# Altium schematic symbol library Arduino_4_Layer.SchLib: 23 symbols
Pins are listed as number, name and electrical type; pins without a type are passive.

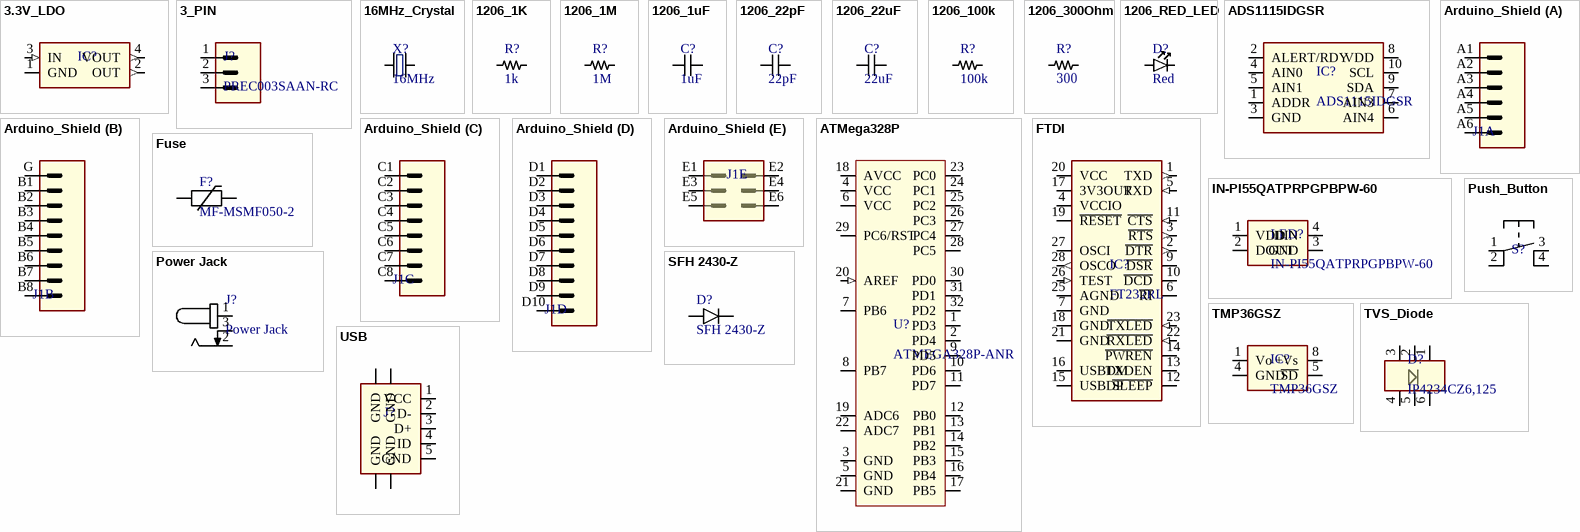
[diagram p0: symbols 3.3V_LDO to USB]

## 3.3V_LDO
designator IC?, comment AZ1117CH-3.3TRG1  (value not drawn)
Linear Voltage Regulator IC Positive Fixed 1 Output 1A SOT-223; Value: IC REG LINEAR 3.3V 800MA SOT223; Digikey Link: https://www.digikey.com/product-detail/en/AZ1117CH-3.3TRG1/AZ1117CH-3.3TRG1DICT-ND/4505206/?itemSeq=304982370; Digikey Part: AZ1117CH-3.3TRG1DICT-ND
footprint SOT223 (SOT223, 4-Leads, Body 6.50x7.00mm (avg), Pitch 2.30mm, IPC Medium Density)
pins: 1 GND, 2 OUT (out), 3 IN (in), 4 VOUT (out)

## 3_PIN
designator J?, comment PREC003SAAN-RC
Connector Header Through Hole 3 position 0.100" (2.54mm); Value: CONN HEADER VERT 3POS 2.54MM; Digikey Link: https://www.digikey.com/product-detail/en/PREC003SAAN-RC/S1012EC-03-ND/2774851/?itemSeq=304982371; Digikey Part: S1012EC-03-ND
footprint 3_PIN
pins: 1, 2, 3

## 16MHz_Crystal
designator X?, comment 16MHz
16MHz ±30ppm Crystal 18pF 40 Ohms HC-49/US; Value: CRYSTAL 16.0000MHZ 18PF SMD; Digikey Link: https://www.digikey.com/product-detail/en/ABLS-16.000MHZ-B4-T/535-10226-1-ND/2184261/?itemSeq=304982364; Digikey Part: 535-10226-1-ND
footprint Crystal
pins: 1, 2

## 1206_1K
designator R?, comment 1k
1 kOhms ±1% 0.5W, 1/2W Chip Resistor 1206 (3216 Metric) Anti-Sulfur, Moisture Resistant Thin Film; Value: RES 1K OHM 1% 1/2W 1206; Digikey Link: https://www.digikey.com/product-detail/en/RNCP1206FTD1K00/RNCP1206FTD1K00CT-ND/2240675/?itemSeq=304982373; Digikey Part: RNCP1206FTD1K00CT-ND
footprint RES1206 (Chip Resistor, 2-Leads, Body 3.10x1.60mm, IPC Medium Density)
pins: 1, 2

## 1206_1M
designator R?, comment 1M
1 MOhms ±5% 0.25W, 1/4W Chip Resistor 1206 (3216 Metric) Automotive AEC-Q200 Thick Film; Value: RES 1M OHM 5% 1/4W 1206; Digikey Link: https://www.digikey.com/product-detail/en/RMCF1206JT1M00/RMCF1206JT1M00CT-ND/1942830/?itemSeq=304982358; Digikey Part: Number RMCF1206JT1M00CT-ND
footprint RES1206 (Chip Resistor, 2-Leads, Body 3.10x1.60mm, IPC Medium Density)
pins: 1, 2

## 1206_1uF
designator C?, comment 1uF
1µF ±20% 16V Ceramic Capacitor X7R 1206 (3216 Metric); Value: CAP CER 1UF 16V X7R 1206; Digikey Link: https://www.digikey.com/product-detail/en/C1206C105M4RACTU/399-8150-1-ND/3471873/?itemSeq=304982366; Digikey Part: 399-8150-1-ND
footprint CAP1206 (Chip Capacitor, 2-Leads, Body 3.20x1.50mm, IPC Medium Density)
pins: 1, 2

## 1206_22pF
designator C?, comment 22pF
22pF ±5% 16V Ceramic Capacitor C0G, NP0 1206 (3216 Metric); Value: CAP CER 22PF 16V C0G/NP0 1206; Digikey Link: https://www.digikey.com/product-detail/en/885012008011/732-7867-1-ND/5454494/?itemSeq=304982362; Digikey Part: 732-7867-1-ND
footprint CAP1206 (Chip Capacitor, 2-Leads, Body 3.20x1.50mm, IPC Medium Density)
pins: 1, 2

## 1206_22uF
designator C?, comment 22uF
22µF ±20% 16V Ceramic Capacitor X5R 1206 (3216 Metric); Value: CAP CER 22UF 16V X5R 1206; Digikey Link: https://www.digikey.com/product-detail/en/CL31A226MOCLNNC/1276-2728-1-ND/3890814/?itemSeq=304982363; Digikey Part: 1276-2728-1-ND
footprint CAP1206 (Chip Capacitor, 2-Leads, Body 3.20x1.50mm, IPC Medium Density)
pins: 1, 2

## 1206_100k
designator R?, comment 100k
100 kOhms ±5% 0.25W, 1/4W Chip Resistor 1206 (3216 Metric) Automotive AEC-Q200 Thick Film
footprint RES1206 (Chip Resistor, 2-Leads, Body 3.10x1.60mm, IPC Medium Density)
pins: 1, 2

## 1206_300Ohm
designator R?, comment 300‎
300 Ohms ±5% 0.25W, 1/4W Chip Resistor 1206 (3216 Metric) Automotive AEC-Q200 Thick Film; Value: 300Ohm; Digikey Link: https://www.digikey.com/product-detail/en/RMCF1206JT300R/RMCF1206JT300RCT-ND/1942776/?itemSeq=304982374; Digikey Part: RMCF1206JT300RCT-ND
footprint RES1206 (Chip Resistor, 2-Leads, Body 3.10x1.60mm, IPC Medium Density)
pins: 1, 2

## 1206_RED_LED
designator D?, comment Red
Red 638nm LED Indication - Discrete 1.8V 1206 (3216 Metric); Value: LED RED CLEAR 1206 SMD; Digikey Link: https://www.digikey.com/product-detail/en/LTST-C150CKT/160-1167-1-ND/269239/?itemSeq=304982368; Digikey Part: 160-1167-1-ND
footprint LED
pins: 1, 2

## ADS1115IDGSR
designator IC?
4-Channel Single ADC Delta-Sigma 860sps 16-bit Serial 10-Pin VSSOP T/R; Manufacturer: Texas Instruments; Interface: I2C; Number of Bits: 16; Sampling Rate: 860S/s; Number of A/D Converters: 1; Resolution: 16b; Polarity: Bipolar; Min Supply Voltage: 2V; Max Supply Voltage: 5.5V; Conversion Rate: 0.86KS/s; Number of Inputs: 4; Integral Nonlinearity (INL): 1LSB; Power Dissipation: 900uW; Supplier 1: Digi-Key; Manufacturer Part Number: ADS1115IDGSR; Stock 1: 14647; Pricing 1: 1=5.52000, 10=4.96200, 100=3.85670, 500=3.33556, 1000=2.77268 (USD); Case/Package: VSSOP; Number of Pins: 10; Contact Plating: Gold; Min Operating Temperature: -40°C; Max Operating Temperature: 125°C; Package Quantity: 2500; Packaging: Tape and Reel; Number of Converters: 1; Supply Type: Single; Max Supply Voltage (DC): 5.5V; Min Supply Voltage (DC): 2V; Radiation Hardening: No; REACH SVHC: No SVHC; Lead Free: Lead Free; ComponentLink1URL: https://datasheet.ciiva.com/4031/47725463s8438921n7713-4031028.pdf?src-supplier=Arrow; ComponentLink1Description: https://datasheet.ciiva.com/4031/47725463s8438921n7713-4031028.pdf?src-supplier=Arrow; ComponentLink2URL: https://datasheet.ciiva.com/1304/ads1113-1304266.pdf?src-supplier=Digi-Key; ComponentLink2Description: https://datasheet.ciiva.com/1304/ads1113-1304266.pdf?src-supplier=Digi-Key; ComponentLink3URL: https://datasheet.ciiva.com/25993/sbas444b-25993205.pdf?src-supplier=Avnet+Europe; ComponentLink3Description: https://datasheet.ciiva.com/25993/sbas444b-25993205.pdf?src-supplier=Avnet+Europe; ComponentLink4URL: https://octopart.com/click/track?ai=2118&ct=datasheets&sig=0bc4b7d&at=physicalpart&sid=370&ppid=12194578&hlid=24870511&src-supplier=TI+store; ComponentLink4Description: https://octopart.com/click/track?ai=2118&ct=datasheets&sig=0bc4b7d&at=physicalpart&sid=370&ppid=12194578&hlid=24870511&src-supplier=TI+store; ComponentLink5URL: http://datasheet.octopart.com/ADS1115IDGSR-Texas-Instruments-datasheet-21818186.pdf?src-supplier=Newark; ComponentLink5Description: http://datasheet.octopart.com/ADS1115IDGSR-Texas-Instruments-datasheet-21818186.pdf?src-supplier=Newark; ComponentLink6URL: http://datasheet.octopart.com/ADS1115IDGSR-Texas-Instruments-datasheet-10258908.pdf?src-supplier=TI+store; ComponentLink6Description: http://datasheet.octopart.com/ADS1115IDGSR-Texas-Instruments-datasheet-10258908.pdf?src-supplier=TI+store; ComponentLink7URL: http://datasheet.octopart.com/ADS1115IDGSR-Texas-Instruments-datasheet-10254488.pdf?src-supplier=TI+store; ComponentLink7Description: http://datasheet.octopart.com/ADS1115IDGSR-Texas-Instruments-datasheet-10254488.pdf?src-supplier=TI+store; ComponentLink8URL: http://sigma.octopart.com/49250172/technical_drawing/Texas-Instruments-ADS1115IDGSR.pdf?src-supplier=TI+store; ComponentLink8Description: http://sigma.octopart.com/49250172/technical_drawing/Texas-Instruments-ADS1115IDGSR.pdf?src-supplier=TI+store; ComponentLink9URL: http://datasheet.octopart.com/ADS1115IDGSR-Texas-Instruments-datasheet-14070808.pdf?src-supplier=IIIC; ComponentLink9Description: http://datasheet.octopart.com/ADS1115IDGSR-Texas-Instruments-datasheet-14070808.pdf?src-supplier=IIIC; ComponentLink10URL: http://datasheet.octopart.com/ADS1115IDGSR-Texas-Instruments-datasheet-78774318.pdf?src-supplier=Farnell; ComponentLink10Description: http://datasheet.octopart.com/ADS1115IDGSR-Texas-Instruments-datasheet-78774318.pdf?src-supplier=Farnell
footprint VSSOP-10 (TSSOP, 10-Leads, Body 3.00x3.00mm, Pitch 0.50mm, IPC Medium Density)
pins: 1 ADDR, 2 ALERT/RDY, 3 GND, 4 AIN0, 5 AIN1, 6 AIN4, 7 AIN3, 8 VDD, 9 SDA, 10 SCL

## Arduino_Shield
designator J1  (value not drawn)
footprint ARDUINO_SHIELD
part A pins: A1 1, A2 2, A3 3, A4 4, A5 5, A6 6
part B pins: B1 1, B2 2, B3 3, B4 4, B5 5, B6 6, B7 7, B8 8, G GND
part C pins: C1 1, C2 2, C3 3, C4 4, C5 5, C6 6, C7 7, C8 8
part D pins: D1 1, D2 2, D3 3, D4 4, D5 5, D6 6, D7 7, D8 8, D9 9, D10 10
part E pins: E1 1, E2 4, E3 2, E4 5, E5 3, E6 6

## ATMega328P
designator U?, comment ATMEGA328P-ANR
AVR AVR® ATmega Microcontroller IC 8-Bit 20MHz 32KB (16K x 16) FLASH 32-TQFP (7x7); Value: IC MCU 8BIT 32KB FLASH 32TQFP; Digikey Link: https://www.digikey.com/product-detail/en/ATMEGA328P-ANR/ATMEGA328P-ANRCT-ND/2774230/?itemSeq=304982365; Digikey Part: ATMEGA328P-ANRCT-ND
footprint TQFP-32 (TQFP, 32-Leads, Body 7.00x7.00mm, Pitch 0.80mm, IPC Medium Density)
pins: 1 PD3 (io), 2 PD4 (io), 3 GND (power), 4 VCC (power), 5 GND (power), 6 VCC (power), 7 PB6 (io), 8 PB7 (io), 9 PD5 (io), 10 PD6 (io), 11 PD7 (io), 12 PB0 (io), 13 PB1 (io), 14 PB2 (io), 15 PB3 (io), 16 PB4 (io), 17 PB5 (io), 18 AVCC (power), 19 ADC6 (io), 20 AREF (in), 21 GND (power), 22 ADC7 (io), 23 PC0 (io), 24 PC1 (io), 25 PC2 (io), 26 PC3 (io), 27 PC4 (io), 28 PC5 (io), 29 PC6/RST (io), 30 PD0 (io), 31 PD1 (io), 32 PD2 (io)

## FTDI
designator IC?, comment FT232RL
USB Bridge, USB to UART USB 2.0 UART Interface 28-SSOP; Value: IC USB FS SERIAL UART 28-SSOP; Digikey Part: 768-1007-1-ND; Digikey Link: https://www.digikey.com/product-detail/en/FT232RL-REEL/768-1007-1-ND/1836402/?itemSeq=304982359
footprint SOP65P780X200-28N (SOP, 28-Leads, Body 10.28x5.30mm, Pitch 0.65mm, IPC Medium Density)
pins: 1 TXD (out), 2 ~{DTR} (out), 3 ~{RTS} (out), 4 VCCIO (power), 5 RXD (in), 6 ~{RI}, 7 GND (power), 9 ~{DSR}, 10 ~{DCD}, 11 ~{CTS} (in), 12 ~{SLEEP}, 13 TXDEN, 14 ~{PWREN}, 15 USBDP (io), 16 USBDM (io), 17 3V3OUT (power), 18 GND (power), 19 ~{RESET}, 20 VCC (power), 21 GND (power), 22 ~{RXLED} (in), 23 ~{TXLED} (in), 25 AGND (power), 26 TEST (in), 27 OSCI, 28 OSCO (out)

## Fuse
designator F?, comment MF-MSMF050-2
Polymeric PTC Resettable Fuse 15V 500mA Ih Surface Mount 1812 (4532 Metric), Concave; Value: PTC RESET FUSE 15V 500MA 1812; Digikey Link: https://www.digikey.com/product-detail/en/MF-MSMF050-2/MF-MSMF050-2CT-ND/662842/?itemSeq=304982360; Digikey Part: MF-MSMF050-2CT-ND
footprint FUSE
pins: 1, 2

## IN-PI55QATPRPGPBPW-60
designator LED?
Top View Plcc 5.0X5.0X1.6 4-PIN; Manufacturer: Inolux; Supplier 1: Digi-Key; Manufacturer Part Number: IN-PI55QATPRPGPBPW-60; Stock 1: 231; Pricing 1: 1=0.76000, 10=0.59400, 100=0.38160, 500=0.32224 (USD)
footprint PLCC_5x5 (PLCC 5x5 LED)
pins: 1 VDD, 2 DOUT, 3 GND, 4 DIN

## Power Jack
designator J?
Power Barrel Connector Jack 2.10mm ID (0.083"), 5.50mm OD (0.217") Through Hole, Right Angle; Value: CONN PWR JACK 2X5.5MM SOLDER; Digikey Link: https://www.digikey.com/product-detail/en/PJ-102A/CP-102A-ND/275425/?itemSeq=304982367; Digikey Part: CP-102A-ND
footprint Power_Jack
pins: 1, 2, 3

## Push_Button
designator S?, comment TL3305AF160QG  (value not drawn)
Tactile Switch SPST-NO Top Actuated Surface Mount; Value: SWITCH TACTILE SPST-NO 50MA 12V; Digikey Link: https://www.digikey.com/product-detail/en/TL3305AF160QG/EG5350CT-ND/5816195/?itemSeq=304982361; Digikey Part: EG5350CT-ND
footprint Switch
pins: 1, 2, 3, 4

## SFH 2430-Z
designator D?
Ambient Light Sensor Photodiode Chip 570nm 0.17A/W Sensitivity Automotive 2-Pin DIL SMT; Manufacturer: Osram Opto; Rise Time: 200us; Dark Current: 100pA; Forward Voltage: 1.2V; Viewing Angle: 120°; Forward Current: 100mA; Reverse Voltage (DC): 6V; Max Power Dissipation: 150mW; Diode Type: PIN; Supplier 1: Digi-Key; Manufacturer Part Number: SFH 2430-Z; Stock 1: 19614; Pricing 1: 1=1.86000, 10=1.51200, 100=0.93020, 500=0.79066 (USD); Mount: Surface Mount; Case/Package: SMD/SMT; Number of Pins: 2; Min Operating Temperature: -40°C; Max Operating Temperature: 100°C; Wavelength: 570nm; Fall Time: 200us; Package Quantity: 1500; Packaging: Tape and Reel; Response Time: 200us; Max Reverse Voltage (DC): 6V; Length: 4.5mm; Height: 1.2mm; Width: 4mm; Radiation Hardening: No; ComponentLink1URL: https://datasheet.ciiva.com/1249/00049208-0-1249200.pdf?src-supplier=Avnet; ComponentLink1Description: https://datasheet.ciiva.com/1249/00049208-0-1249200.pdf?src-supplier=Avnet; ComponentLink2URL: https://datasheet.ciiva.com/4697/fh2430-pb-free-2011-10-14-57278-4697621.pdf?src-supplier=Mouser; ComponentLink2Description: https://datasheet.ciiva.com/4697/fh2430-pb-free-2011-10-14-57278-4697621.pdf?src-supplier=Mouser; ComponentLink3URL: https://datasheet.ciiva.com/15117/getdatasheetpartid-572445-15117163.pdf?src-supplier=Verical; ComponentLink3Description: https://datasheet.ciiva.com/15117/getdatasheetpartid-572445-15117163.pdf?src-supplier=Verical; ComponentLink4URL: https://datasheet.ciiva.com/2819/00083291-0-2819841.pdf?src-supplier=Digi-Key; ComponentLink4Description: https://datasheet.ciiva.com/2819/00083291-0-2819841.pdf?src-supplier=Digi-Key; ComponentLink5URL: https://datasheet.ciiva.com/2819/00083291-0-2819842.pdf?src-supplier=Digi-Key; ComponentLink5Description: https://datasheet.ciiva.com/2819/00083291-0-2819842.pdf?src-supplier=Digi-Key; ComponentLink6URL: https://datasheet.ciiva.com/2819/00083291-0-2819843.pdf?src-supplier=Digi-Key; ComponentLink6Description: https://datasheet.ciiva.com/2819/00083291-0-2819843.pdf?src-supplier=Digi-Key; ComponentLink7URL: http://datasheet.octopart.com/Q65110-A2673-Osram-datasheet-13705788.pdf?src-supplier=_legacy+Avnet; ComponentLink7Description: http://datasheet.octopart.com/Q65110-A2673-Osram-datasheet-13705788.pdf?src-supplier=_legacy+Avnet
footprint SFH 2430 (SOIC, 2-Leads, Body 3.85x4.40mm, Pitch 1.27mm, IPC Medium Density)
pins: A, C

## TMP36GSZ
designator IC?
Temp Sensor Analog(Voltage) Serial (2-Wire) 8-Pin SOIC N Tube; Manufacturer: Analog Devices; Min Supply Voltage: 2.7V; Max Supply Voltage: 5.5V; Operating Supply Current: 50uA; Output Current: 50A; Supplier 1: Digi-Key; Manufacturer Part Number: TMP36GSZ; Stock 1: 1242; Pricing 1: 1=1.48000, 10=1.32500, 25=1.25000, 100=1.06500, 500=0.87500, 1000=0.72500, 5000=0.70000 (USD); Case/Package: R; Number of Pins: 8; Min Operating Temperature: -40°C; Max Operating Temperature: 125°C; Package Quantity: 98; Interface: Analog; Packaging: Rail/Tube; Nominal Supply Current: 50uA; Output Type: Analog; Termination: SMD/SMT; Quiescent Current: 50uA; Length: 5mm; Height: 1.5mm; Width: 4mm; Radiation Hardening: No; Lead Free: Contains Lead; REACH SVHC: No SVHC; ComponentLink1URL: https://datasheet.ciiva.com/15098/getdatasheetpartid-116076-15098223.pdf?src-supplier=Verical; ComponentLink1Description: https://datasheet.ciiva.com/15098/getdatasheetpartid-116076-15098223.pdf?src-supplier=Verical; ComponentLink2URL: https://datasheet.ciiva.com/1514/1793789-1514118.pdf?src-supplier=Element14; ComponentLink2Description: https://datasheet.ciiva.com/1514/1793789-1514118.pdf?src-supplier=Element14; ComponentLink3URL: https://datasheet.ciiva.com/3278/tmp35-36-37-3278025.pdf?src-supplier=Avnet; ComponentLink3Description: https://datasheet.ciiva.com/3278/tmp35-36-37-3278025.pdf?src-supplier=Avnet; ComponentLink4URL: https://datasheet.ciiva.com/7992/1793789-7992346.pdf?src-supplier=Element14; ComponentLink4Description: https://datasheet.ciiva.com/7992/1793789-7992346.pdf?src-supplier=Element14; ComponentLink5URL: https://datasheet.ciiva.com/16219/tmp35-36-37-246343-16219643.pdf?src-supplier=Mouser; ComponentLink5Description: https://datasheet.ciiva.com/16219/tmp35-36-37-246343-16219643.pdf?src-supplier=Mouser; ComponentLink6URL: https://datasheet.ciiva.com/16636/tmp35-36-37-16636046.pdf?src-supplier=Avnet+Europe; ComponentLink6Description: https://datasheet.ciiva.com/16636/tmp35-36-37-16636046.pdf?src-supplier=Avnet+Europe; ComponentLink7URL: https://datasheet.ciiva.com/2847/tmp35-36-37-2847519.pdf?src-supplier=Digi-Key; ComponentLink7Description: https://datasheet.ciiva.com/2847/tmp35-36-37-2847519.pdf?src-supplier=Digi-Key; ComponentLink8URL: http://datasheet.octopart.com/TMP36GSZ-Analog-Devices-datasheet-5402947.pdf?src-supplier=Newark; ComponentLink8Description: http://datasheet.octopart.com/TMP36GSZ-Analog-Devices-datasheet-5402947.pdf?src-supplier=Newark; ComponentLink9URL: http://datasheet.octopart.com/TMP36GSZ-Analog-Devices-datasheet-10538785.pdf?src-supplier=Newark; ComponentLink9Description: http://datasheet.octopart.com/TMP36GSZ-Analog-Devices-datasheet-10538785.pdf?src-supplier=Newark; ComponentLink10URL: http://datasheet.octopart.com/TMP36GSZ-Analog-Devices-datasheet-22148775.pdf?src-supplier=Newark; ComponentLink10Description: http://datasheet.octopart.com/TMP36GSZ-Analog-Devices-datasheet-22148775.pdf?src-supplier=Newark; ComponentLink11URL: http://datasheet.octopart.com/TMP36GSZ-Analog-Devices-datasheet-43345165.pdf?src-supplier=Farnell; ComponentLink11Description: http://datasheet.octopart.com/TMP36GSZ-Analog-Devices-datasheet-43345165.pdf?src-supplier=Farnell; ComponentLink12URL: http://datasheet.octopart.com/TMP36GSZ-Analog-Devices-datasheet-120101.pdf?src-supplier=Digi-Key; ComponentLink12Description: http://datasheet.octopart.com/TMP36GSZ-Analog-Devices-datasheet-120101.pdf?src-supplier=Digi-Key; ComponentLink13URL: http://datasheet.octopart.com/TMP36GSZ-Analog-Devices-datasheet-14184915.pdf?src-supplier=IIIC; ComponentLink13Description: http://datasheet.octopart.com/TMP36GSZ-Analog-Devices-datasheet-14184915.pdf?src-supplier=IIIC
footprint SOIC-8 (SOIC, 8-Leads, Body 4.90x3.90mm, Pitch 1.27mm, IPC Medium Density)
pins: 1 Vo, 4 GND, 5 ~{SD}, 8 +Vs

## TVS_Diode
designator D?, comment IP4234CZ6,125
Clamp Ipp Tvs Diode Surface Mount 6-TSOP; Value: TVS DIODE 5.5V 6TSOP; Digikey Part: 1727-4717-1-ND; Digikey Link: https://www.digikey.com/product-detail/en/IP4234CZ6%2c125/1727-4717-1-ND/2531156/?itemSeq=304982369
footprint TSOP-6 (TSOP, 6-Leads, Body 2.90x1.50mm, Pitch 0.95mm, IPC Medium Density)
pins: 1, 2, 3, 4, 5, 6

## USB
designator J?, comment XM7D-0512  (value not drawn)
USB - mini B USB 2.0 Receptacle Connector 5 Position Through Hole, Right Angle; Value: CONN RCPT USB2.0 MINI B 5P R/A; Digikey Link: https://www.digikey.com/product-detail/en/XM7D-0512/OR1205-ND/4695531/?itemSeq=304982356; Digikey Part: OR1205-ND
footprint XM7D-0512
pins: 1 VCC, 2 D-, 3 D+, 4 ID, 5 GND, SH1 GND, SH2 GND, SH3 GND, SH4 GND